# Altium integrated library Numeric Red 7-Segment 3 Character.IntLib: 1 symbol
Pins are listed as number, name and electrical type; pins without a type are passive.

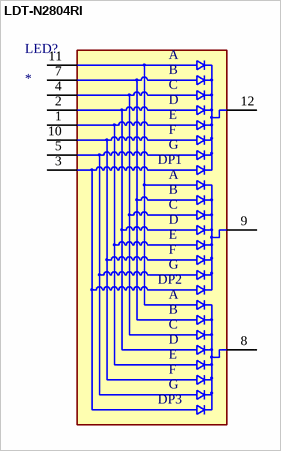
[diagram p0: symbol LDT-N2804RI]

## LDT-N2804RI
designator LED?
Display Modules - LED Character and Numeric Red 7-Segment 3 Character Common Cathode 2V 10mA 0.394 H x 0.887 W x 0.240 D (10.00mm x 22.53mm x 6.10mm) 12-DIP (0.300, 7.62mm), 11 Leads; MF: Lumex Opto/Components; MP: LDT-N2804RI; SnapEDA_Link: https://www.snapeda.com/parts/LDT-N2804RI/Lumex/view-part/?ref=snap; Package: None; Value: *; Check_prices: https://www.snapeda.com/parts/LDT-N2804RI/Lumex/view-part/?ref=eda
footprint LDT-N2804RI_LUM
pins: 1, 2, 3, 4, 5, 7, 8, 9, 10, 11, 12
text: A; B; C; D; E; F; G; DP1; DP2; DP3